# EAGLE library part LP129QE-EDP-40 (library LCD Connectors)
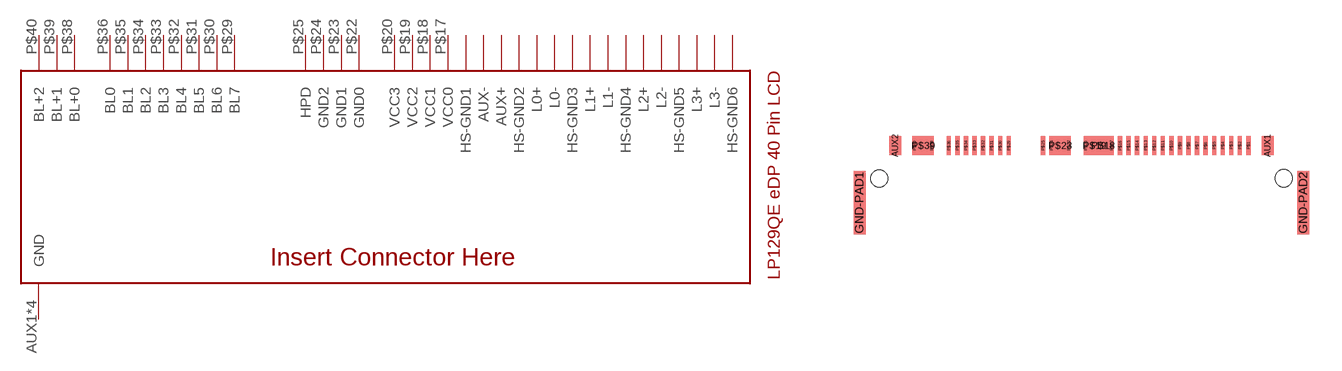
[diagram p0: symbol with the pads of I-PEX-20474-040E-12; footprint I-PEX-20474-040E-12]

Designator prefix F

## LP129QE-EDP-40  [I-PEX-20474-040E-12]
AUX1  GND  pwr
AUX2  GND  pwr
GND-PAD1  GND  pwr
GND-PAD2  GND  pwr
P$1  HS-GND6  hiz
P$2  L3-  hiz
P$3  L3+  hiz
P$4  HS-GND5  hiz
P$5  L2-  hiz
P$6  L2+  hiz
P$7  HS-GND4  hiz
P$8  L1-  hiz
P$9  L1+  hiz
P$10  HS-GND3  hiz
P$11  L0-  hiz
P$12  L0+  hiz
P$13  HS-GND2  hiz
P$14  AUX+  hiz
P$15  AUX-  hiz
P$16  HS-GND1  hiz
P$17  VCC0
P$18  VCC1
P$19  VCC2
P$20  VCC3
P$22  GND0
P$23  GND1
P$24  GND2
P$25  HPD
P$29  BL7
P$30  BL6
P$31  BL5
P$32  BL4
P$33  BL3
P$34  BL2
P$35  BL1
P$36  BL0
P$38  BL+0
P$39  BL+1
P$40  BL+2

## Footprint I-PEX-20474-040E-12 (pad centres in mm)
smd 0.55 x 0.9: AUX1 0.8,0; AUX2 -16.6,0
smd 0.56 x 2.95: GND-PAD1 -18.27,-2.675; GND-PAD2 2.47,-2.675
smd 0.2 x 0.9: P$1 -0.1,0; P$2 -0.5,0; P$3 -0.9,0; P$4 -1.3,0; P$5 -1.7,0; P$6 -2.1,0; P$7 -2.5,0; P$8 -2.9,0; P$9 -3.3,0; P$10 -3.7,0; P$11 -4.1,0; P$12 -4.5,0; P$13 -4.9,0; P$14 -5.3,0; P$15 -5.7,0; P$16 -6.1,0; P$17 -6.5,0; P$20 -7.7,0; P$22 -8.5,0; P$24 -9.3,0; P$25 -9.7,0; P$29 -11.3,0; P$30 -11.7,0; P$31 -12.1,0; P$32 -12.5,0; P$33 -12.9,0; P$34 -13.3,0; P$35 -13.7,0; P$36 -14.1,0; P$38 -14.9,0; P$40 -15.7,0
smd 1 x 0.9: P$18 -6.9,0; P$19 -7.3,0; P$23 -8.9,0; P$39 -15.3,0
hole 0.8 at 1.55,-1.53
hole 0.8 at -17.35,-1.55